# Altium integrated library Maxim Supervisors, Voltage Monitors and Sequencers.IntLib: 631 symbols (part 13 of 13)
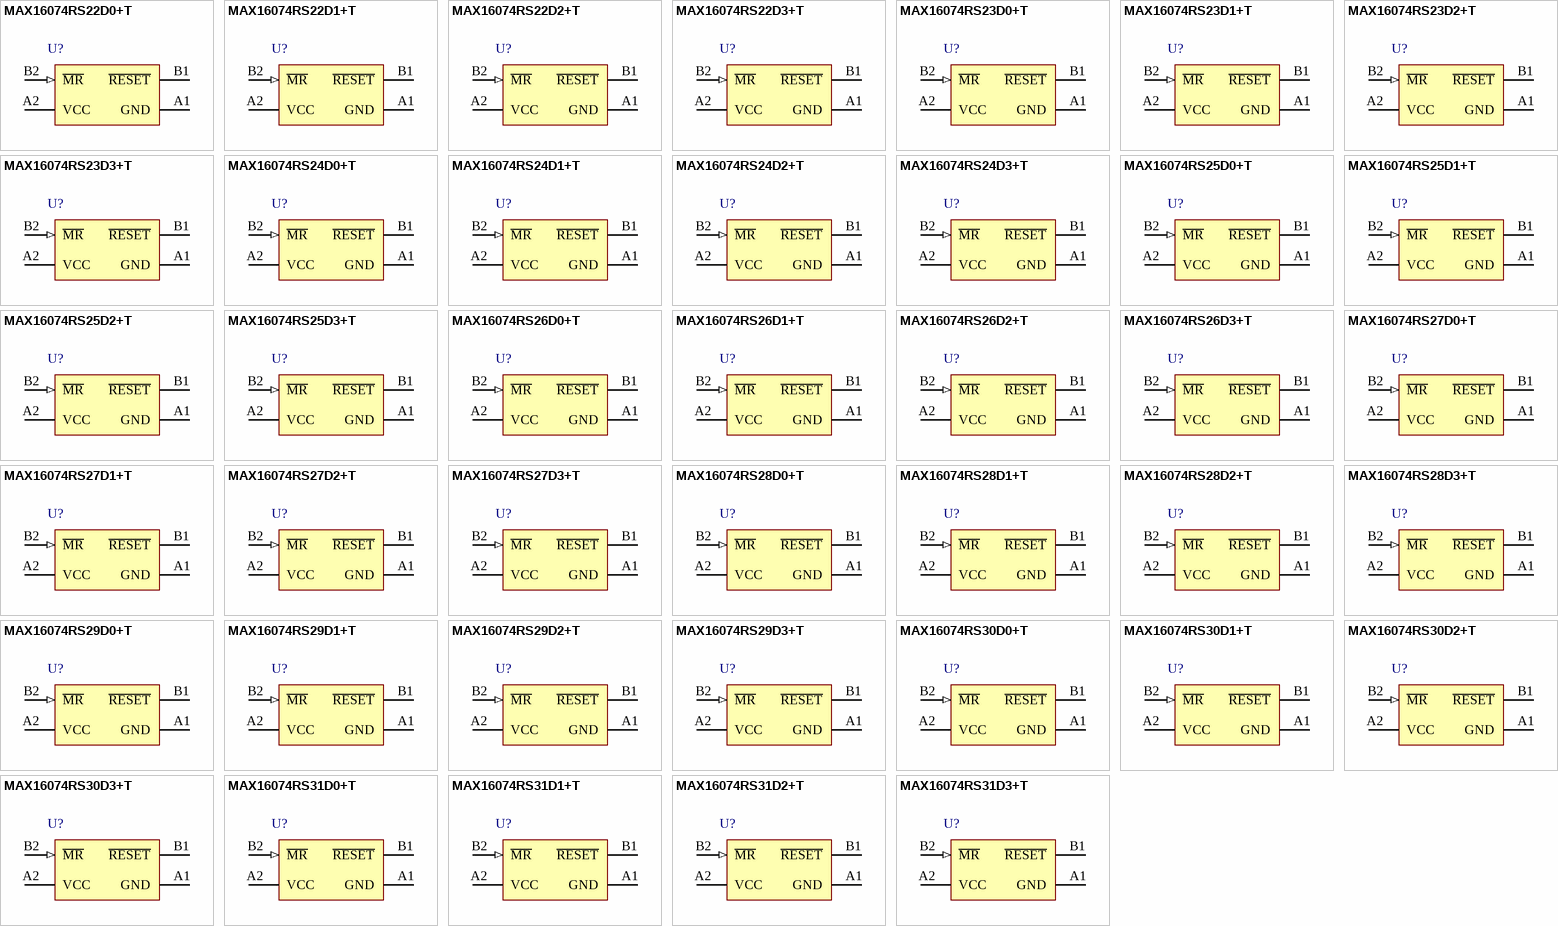
[diagram p29: symbols MAX16074RS22D0+T to MAX16074RS31D3+T]

## MAX16074RS27D3+T
designator U?
uP Supervisory Circuit, open-drain active-low reset, 4-Pin UCSP, -40°C to +85°C, Pb-Free, Tape and Reel; DatasheetVersion: Rev 0, Jan-2010; PackageVersion: revA, 2008; PackageReference: R41C1+1; PackageDescription: 4-Bump Ultra Chip-Scale Package 2x2 Array, 1x1 mm Body, 0.5 mm Pitch, UCSP (R), Pb-Free; ComponentLink1Description: Manufacturer URL; ComponentLink1URL: http://www.maxim-ic.com; ComponentLink2Description: Datasheet; ComponentLink2URL: http://datasheets.maxim-ic.com/en/ds/MAX16072-MAX16074.pdf; ComponentLink3Description: Package Specification; ComponentLink3URL: http://pdfserv.maxim-ic.com/package_dwgs/21-0242.PDF
footprint R41C1+1 (BGA, 4-Leads, Body 1.1x1.1mm, Pitch 0.5mm)
pins: A1 GND (power), A2 VCC (power), B1 ~{RESET} (oc), B2 ~{MR} (in)

## MAX16074RS28D0+T
designator U?
uP Supervisory Circuit, open-drain active-low reset, 4-Pin UCSP, -40°C to +85°C, Pb-Free, Tape and Reel; DatasheetVersion: Rev 0, Jan-2010; PackageVersion: revA, 2008; PackageReference: R41C1+1; PackageDescription: 4-Bump Ultra Chip-Scale Package 2x2 Array, 1x1 mm Body, 0.5 mm Pitch, UCSP (R), Pb-Free; ComponentLink1Description: Manufacturer URL; ComponentLink1URL: http://www.maxim-ic.com; ComponentLink2Description: Datasheet; ComponentLink2URL: http://datasheets.maxim-ic.com/en/ds/MAX16072-MAX16074.pdf; ComponentLink3Description: Package Specification; ComponentLink3URL: http://pdfserv.maxim-ic.com/package_dwgs/21-0242.PDF
footprint R41C1+1 (BGA, 4-Leads, Body 1.1x1.1mm, Pitch 0.5mm)
pins: A1 GND (power), A2 VCC (power), B1 ~{RESET} (oc), B2 ~{MR} (in)

## MAX16074RS28D1+T
designator U?
uP Supervisory Circuit, open-drain active-low reset, 4-Pin UCSP, -40°C to +85°C, Pb-Free, Tape and Reel; DatasheetVersion: Rev 0, Jan-2010; PackageVersion: revA, 2008; PackageReference: R41C1+1; PackageDescription: 4-Bump Ultra Chip-Scale Package 2x2 Array, 1x1 mm Body, 0.5 mm Pitch, UCSP (R), Pb-Free; ComponentLink1Description: Manufacturer URL; ComponentLink1URL: http://www.maxim-ic.com; ComponentLink2Description: Datasheet; ComponentLink2URL: http://datasheets.maxim-ic.com/en/ds/MAX16072-MAX16074.pdf; ComponentLink3Description: Package Specification; ComponentLink3URL: http://pdfserv.maxim-ic.com/package_dwgs/21-0242.PDF
footprint R41C1+1 (BGA, 4-Leads, Body 1.1x1.1mm, Pitch 0.5mm)
pins: A1 GND (power), A2 VCC (power), B1 ~{RESET} (oc), B2 ~{MR} (in)

## MAX16074RS28D2+T
designator U?
uP Supervisory Circuit, open-drain active-low reset, 4-Pin UCSP, -40°C to +85°C, Pb-Free, Tape and Reel; DatasheetVersion: Rev 0, Jan-2010; PackageVersion: revA, 2008; PackageReference: R41C1+1; PackageDescription: 4-Bump Ultra Chip-Scale Package 2x2 Array, 1x1 mm Body, 0.5 mm Pitch, UCSP (R), Pb-Free; ComponentLink1Description: Manufacturer URL; ComponentLink1URL: http://www.maxim-ic.com; ComponentLink2Description: Datasheet; ComponentLink2URL: http://datasheets.maxim-ic.com/en/ds/MAX16072-MAX16074.pdf; ComponentLink3Description: Package Specification; ComponentLink3URL: http://pdfserv.maxim-ic.com/package_dwgs/21-0242.PDF
footprint R41C1+1 (BGA, 4-Leads, Body 1.1x1.1mm, Pitch 0.5mm)
pins: A1 GND (power), A2 VCC (power), B1 ~{RESET} (oc), B2 ~{MR} (in)

## MAX16074RS28D3+T
designator U?
uP Supervisory Circuit, open-drain active-low reset, 4-Pin UCSP, -40°C to +85°C, Pb-Free, Tape and Reel; DatasheetVersion: Rev 0, Jan-2010; PackageVersion: revA, 2008; PackageReference: R41C1+1; PackageDescription: 4-Bump Ultra Chip-Scale Package 2x2 Array, 1x1 mm Body, 0.5 mm Pitch, UCSP (R), Pb-Free; ComponentLink1Description: Manufacturer URL; ComponentLink1URL: http://www.maxim-ic.com; ComponentLink2Description: Datasheet; ComponentLink2URL: http://datasheets.maxim-ic.com/en/ds/MAX16072-MAX16074.pdf; ComponentLink3Description: Package Specification; ComponentLink3URL: http://pdfserv.maxim-ic.com/package_dwgs/21-0242.PDF
footprint R41C1+1 (BGA, 4-Leads, Body 1.1x1.1mm, Pitch 0.5mm)
pins: A1 GND (power), A2 VCC (power), B1 ~{RESET} (oc), B2 ~{MR} (in)

## MAX16074RS29D0+T
designator U?
uP Supervisory Circuit, open-drain active-low reset, 4-Pin UCSP, -40°C to +85°C, Pb-Free, Tape and Reel; DatasheetVersion: Rev 0, Jan-2010; PackageVersion: revA, 2008; PackageReference: R41C1+1; PackageDescription: 4-Bump Ultra Chip-Scale Package 2x2 Array, 1x1 mm Body, 0.5 mm Pitch, UCSP (R), Pb-Free; ComponentLink1Description: Manufacturer URL; ComponentLink1URL: http://www.maxim-ic.com; ComponentLink2Description: Datasheet; ComponentLink2URL: http://datasheets.maxim-ic.com/en/ds/MAX16072-MAX16074.pdf; ComponentLink3Description: Package Specification; ComponentLink3URL: http://pdfserv.maxim-ic.com/package_dwgs/21-0242.PDF
footprint R41C1+1 (BGA, 4-Leads, Body 1.1x1.1mm, Pitch 0.5mm)
pins: A1 GND (power), A2 VCC (power), B1 ~{RESET} (oc), B2 ~{MR} (in)

## MAX16074RS29D1+T
designator U?
uP Supervisory Circuit, open-drain active-low reset, 4-Pin UCSP, -40°C to +85°C, Pb-Free, Tape and Reel; DatasheetVersion: Rev 0, Jan-2010; PackageVersion: revA, 2008; PackageReference: R41C1+1; PackageDescription: 4-Bump Ultra Chip-Scale Package 2x2 Array, 1x1 mm Body, 0.5 mm Pitch, UCSP (R), Pb-Free; ComponentLink1Description: Manufacturer URL; ComponentLink1URL: http://www.maxim-ic.com; ComponentLink2Description: Datasheet; ComponentLink2URL: http://datasheets.maxim-ic.com/en/ds/MAX16072-MAX16074.pdf; ComponentLink3Description: Package Specification; ComponentLink3URL: http://pdfserv.maxim-ic.com/package_dwgs/21-0242.PDF
footprint R41C1+1 (BGA, 4-Leads, Body 1.1x1.1mm, Pitch 0.5mm)
pins: A1 GND (power), A2 VCC (power), B1 ~{RESET} (oc), B2 ~{MR} (in)

## MAX16074RS29D2+T
designator U?
uP Supervisory Circuit, open-drain active-low reset, 4-Pin UCSP, -40°C to +85°C, Pb-Free, Tape and Reel; DatasheetVersion: Rev 0, Jan-2010; PackageVersion: revA, 2008; PackageReference: R41C1+1; PackageDescription: 4-Bump Ultra Chip-Scale Package 2x2 Array, 1x1 mm Body, 0.5 mm Pitch, UCSP (R), Pb-Free; ComponentLink1Description: Manufacturer URL; ComponentLink1URL: http://www.maxim-ic.com; ComponentLink2Description: Datasheet; ComponentLink2URL: http://datasheets.maxim-ic.com/en/ds/MAX16072-MAX16074.pdf; ComponentLink3Description: Package Specification; ComponentLink3URL: http://pdfserv.maxim-ic.com/package_dwgs/21-0242.PDF
footprint R41C1+1 (BGA, 4-Leads, Body 1.1x1.1mm, Pitch 0.5mm)
pins: A1 GND (power), A2 VCC (power), B1 ~{RESET} (oc), B2 ~{MR} (in)

## MAX16074RS29D3+T
designator U?
uP Supervisory Circuit, open-drain active-low reset, 4-Pin UCSP, -40°C to +85°C, Pb-Free, Tape and Reel; DatasheetVersion: Rev 0, Jan-2010; PackageVersion: revA, 2008; PackageReference: R41C1+1; PackageDescription: 4-Bump Ultra Chip-Scale Package 2x2 Array, 1x1 mm Body, 0.5 mm Pitch, UCSP (R), Pb-Free; ComponentLink1Description: Manufacturer URL; ComponentLink1URL: http://www.maxim-ic.com; ComponentLink2Description: Datasheet; ComponentLink2URL: http://datasheets.maxim-ic.com/en/ds/MAX16072-MAX16074.pdf; ComponentLink3Description: Package Specification; ComponentLink3URL: http://pdfserv.maxim-ic.com/package_dwgs/21-0242.PDF
footprint R41C1+1 (BGA, 4-Leads, Body 1.1x1.1mm, Pitch 0.5mm)
pins: A1 GND (power), A2 VCC (power), B1 ~{RESET} (oc), B2 ~{MR} (in)

## MAX16074RS30D0+T
designator U?
uP Supervisory Circuit, open-drain active-low reset, 4-Pin UCSP, -40°C to +85°C, Pb-Free, Tape and Reel; DatasheetVersion: Rev 0, Jan-2010; PackageVersion: revA, 2008; PackageReference: R41C1+1; PackageDescription: 4-Bump Ultra Chip-Scale Package 2x2 Array, 1x1 mm Body, 0.5 mm Pitch, UCSP (R), Pb-Free; ComponentLink1Description: Manufacturer URL; ComponentLink1URL: http://www.maxim-ic.com; ComponentLink2Description: Datasheet; ComponentLink2URL: http://datasheets.maxim-ic.com/en/ds/MAX16072-MAX16074.pdf; ComponentLink3Description: Package Specification; ComponentLink3URL: http://pdfserv.maxim-ic.com/package_dwgs/21-0242.PDF
footprint R41C1+1 (BGA, 4-Leads, Body 1.1x1.1mm, Pitch 0.5mm)
pins: A1 GND (power), A2 VCC (power), B1 ~{RESET} (oc), B2 ~{MR} (in)

## MAX16074RS30D1+T
designator U?
uP Supervisory Circuit, open-drain active-low reset, 4-Pin UCSP, -40°C to +85°C, Pb-Free, Tape and Reel; DatasheetVersion: Rev 0, Jan-2010; PackageVersion: revA, 2008; PackageReference: R41C1+1; PackageDescription: 4-Bump Ultra Chip-Scale Package 2x2 Array, 1x1 mm Body, 0.5 mm Pitch, UCSP (R), Pb-Free; ComponentLink1Description: Manufacturer URL; ComponentLink1URL: http://www.maxim-ic.com; ComponentLink2Description: Datasheet; ComponentLink2URL: http://datasheets.maxim-ic.com/en/ds/MAX16072-MAX16074.pdf; ComponentLink3Description: Package Specification; ComponentLink3URL: http://pdfserv.maxim-ic.com/package_dwgs/21-0242.PDF
footprint R41C1+1 (BGA, 4-Leads, Body 1.1x1.1mm, Pitch 0.5mm)
pins: A1 GND (power), A2 VCC (power), B1 ~{RESET} (oc), B2 ~{MR} (in)

## MAX16074RS30D2+T
designator U?
uP Supervisory Circuit, open-drain active-low reset, 4-Pin UCSP, -40°C to +85°C, Pb-Free, Tape and Reel; DatasheetVersion: Rev 0, Jan-2010; PackageVersion: revA, 2008; PackageReference: R41C1+1; PackageDescription: 4-Bump Ultra Chip-Scale Package 2x2 Array, 1x1 mm Body, 0.5 mm Pitch, UCSP (R), Pb-Free; ComponentLink1Description: Manufacturer URL; ComponentLink1URL: http://www.maxim-ic.com; ComponentLink2Description: Datasheet; ComponentLink2URL: http://datasheets.maxim-ic.com/en/ds/MAX16072-MAX16074.pdf; ComponentLink3Description: Package Specification; ComponentLink3URL: http://pdfserv.maxim-ic.com/package_dwgs/21-0242.PDF
footprint R41C1+1 (BGA, 4-Leads, Body 1.1x1.1mm, Pitch 0.5mm)
pins: A1 GND (power), A2 VCC (power), B1 ~{RESET} (oc), B2 ~{MR} (in)

## MAX16074RS30D3+T
designator U?
uP Supervisory Circuit, open-drain active-low reset, 4-Pin UCSP, -40°C to +85°C, Pb-Free, Tape and Reel; DatasheetVersion: Rev 0, Jan-2010; PackageVersion: revA, 2008; PackageReference: R41C1+1; PackageDescription: 4-Bump Ultra Chip-Scale Package 2x2 Array, 1x1 mm Body, 0.5 mm Pitch, UCSP (R), Pb-Free; ComponentLink1Description: Manufacturer URL; ComponentLink1URL: http://www.maxim-ic.com; ComponentLink2Description: Datasheet; ComponentLink2URL: http://datasheets.maxim-ic.com/en/ds/MAX16072-MAX16074.pdf; ComponentLink3Description: Package Specification; ComponentLink3URL: http://pdfserv.maxim-ic.com/package_dwgs/21-0242.PDF
footprint R41C1+1 (BGA, 4-Leads, Body 1.1x1.1mm, Pitch 0.5mm)
pins: A1 GND (power), A2 VCC (power), B1 ~{RESET} (oc), B2 ~{MR} (in)

## MAX16074RS31D0+T
designator U?
uP Supervisory Circuit, open-drain active-low reset, 4-Pin UCSP, -40°C to +85°C, Pb-Free, Tape and Reel; DatasheetVersion: Rev 0, Jan-2010; PackageVersion: revA, 2008; PackageReference: R41C1+1; PackageDescription: 4-Bump Ultra Chip-Scale Package 2x2 Array, 1x1 mm Body, 0.5 mm Pitch, UCSP (R), Pb-Free; ComponentLink1Description: Manufacturer URL; ComponentLink1URL: http://www.maxim-ic.com; ComponentLink2Description: Datasheet; ComponentLink2URL: http://datasheets.maxim-ic.com/en/ds/MAX16072-MAX16074.pdf; ComponentLink3Description: Package Specification; ComponentLink3URL: http://pdfserv.maxim-ic.com/package_dwgs/21-0242.PDF
footprint R41C1+1 (BGA, 4-Leads, Body 1.1x1.1mm, Pitch 0.5mm)
pins: A1 GND (power), A2 VCC (power), B1 ~{RESET} (oc), B2 ~{MR} (in)

## MAX16074RS31D1+T
designator U?
uP Supervisory Circuit, open-drain active-low reset, 4-Pin UCSP, -40°C to +85°C, Pb-Free, Tape and Reel; DatasheetVersion: Rev 0, Jan-2010; PackageVersion: revA, 2008; PackageReference: R41C1+1; PackageDescription: 4-Bump Ultra Chip-Scale Package 2x2 Array, 1x1 mm Body, 0.5 mm Pitch, UCSP (R), Pb-Free; ComponentLink1Description: Manufacturer URL; ComponentLink1URL: http://www.maxim-ic.com; ComponentLink2Description: Datasheet; ComponentLink2URL: http://datasheets.maxim-ic.com/en/ds/MAX16072-MAX16074.pdf; ComponentLink3Description: Package Specification; ComponentLink3URL: http://pdfserv.maxim-ic.com/package_dwgs/21-0242.PDF
footprint R41C1+1 (BGA, 4-Leads, Body 1.1x1.1mm, Pitch 0.5mm)
pins: A1 GND (power), A2 VCC (power), B1 ~{RESET} (oc), B2 ~{MR} (in)

## MAX16074RS31D2+T
designator U?
uP Supervisory Circuit, open-drain active-low reset, 4-Pin UCSP, -40°C to +85°C, Pb-Free, Tape and Reel; DatasheetVersion: Rev 0, Jan-2010; PackageVersion: revA, 2008; PackageReference: R41C1+1; PackageDescription: 4-Bump Ultra Chip-Scale Package 2x2 Array, 1x1 mm Body, 0.5 mm Pitch, UCSP (R), Pb-Free; ComponentLink1Description: Manufacturer URL; ComponentLink1URL: http://www.maxim-ic.com; ComponentLink2Description: Datasheet; ComponentLink2URL: http://datasheets.maxim-ic.com/en/ds/MAX16072-MAX16074.pdf; ComponentLink3Description: Package Specification; ComponentLink3URL: http://pdfserv.maxim-ic.com/package_dwgs/21-0242.PDF
footprint R41C1+1 (BGA, 4-Leads, Body 1.1x1.1mm, Pitch 0.5mm)
pins: A1 GND (power), A2 VCC (power), B1 ~{RESET} (oc), B2 ~{MR} (in)

## MAX16074RS31D3+T
designator U?
uP Supervisory Circuit, open-drain active-low reset, 4-Pin UCSP, -40°C to +85°C, Pb-Free, Tape and Reel; DatasheetVersion: Rev 0, Jan-2010; PackageVersion: revA, 2008; PackageReference: R41C1+1; PackageDescription: 4-Bump Ultra Chip-Scale Package 2x2 Array, 1x1 mm Body, 0.5 mm Pitch, UCSP (R), Pb-Free; ComponentLink1Description: Manufacturer URL; ComponentLink1URL: http://www.maxim-ic.com; ComponentLink2Description: Datasheet; ComponentLink2URL: http://datasheets.maxim-ic.com/en/ds/MAX16072-MAX16074.pdf; ComponentLink3Description: Package Specification; ComponentLink3URL: http://pdfserv.maxim-ic.com/package_dwgs/21-0242.PDF
footprint R41C1+1 (BGA, 4-Leads, Body 1.1x1.1mm, Pitch 0.5mm)
pins: A1 GND (power), A2 VCC (power), B1 ~{RESET} (oc), B2 ~{MR} (in)

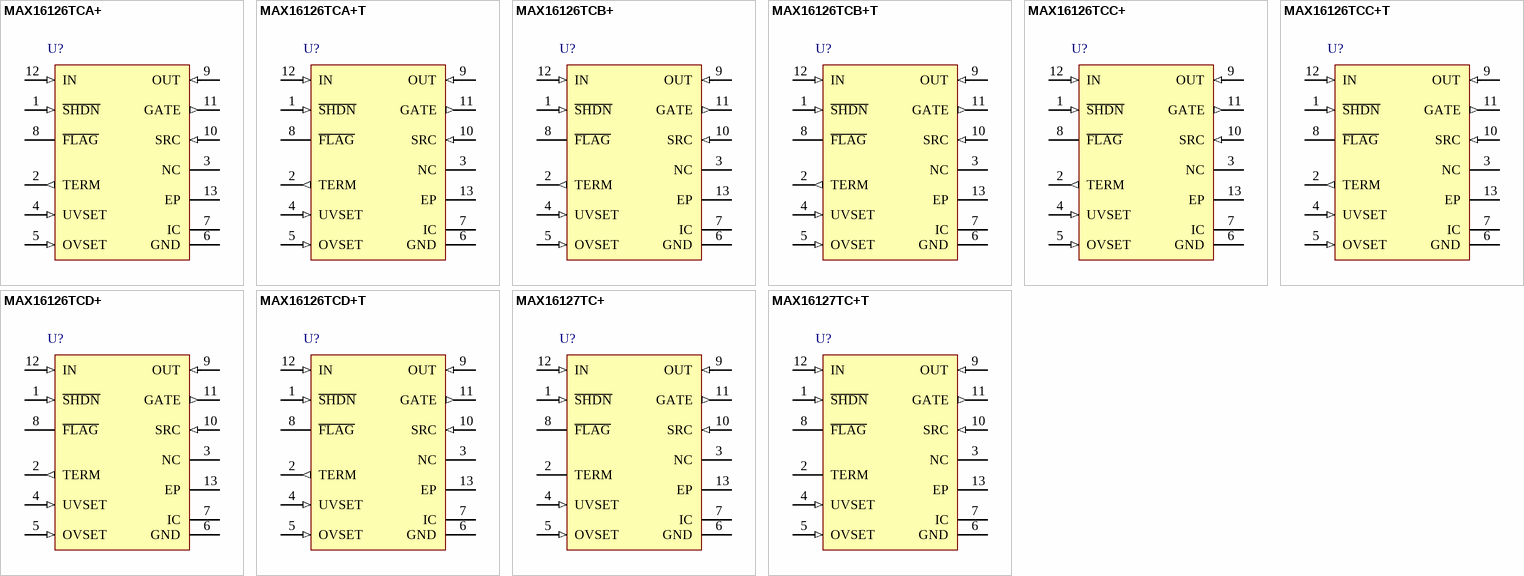
[diagram p17: symbols MAX16126TCA+ to MAX16127TC+T]

## MAX16126TCA+
designator U?
Load-Dump/Reverse-Voltage Protection Circuit, switch-mode fault management, 12-Pin TQFN-EP, -40°C to +125°C, Pb-Free; DatasheetVersion: Rev 0, Nov-2011; PackageVersion: revJ, 2010; PackageReference: T1233+4; PackageDescription: 12-Pin Thin Quad Flatpack, No Leads, 3 x 3 x 0.75 mm Body, 0.5 mm Pitch, TQFN, Pb-Free; Code_JEDEC: MO-220WEED-1; ComponentLink1Description: Manufacturer URL; ComponentLink1URL: http://www.maxim-ic.com; ComponentLink2Description: Datasheet; ComponentLink2URL: http://datasheets.maxim-ic.com/en/ds/MAX16126-MAX16127.pdf; ComponentLink3Description: Package Specification; ComponentLink3URL: http://pdfserv.maxim-ic.com/package_dwgs/21-0136.PDF
footprint T1233+4_N (QFN, 12-Leads, Body 3x3mm, Pitch 0.5mm, Thermal Pad 1.1x1.1mm, IPC Medium Density)
footprint T1233+4_L (QFN, 12-Leads, Body 3x3mm, Pitch 0.5mm, Thermal Pad 1.1x1.1mm, IPC High Density)
footprint T1233+4_M (QFN, 12-Leads, Body 3x3mm, Pitch 0.5mm, Thermal Pad 1.1x1.1mm, IPC Low Density)
pins: 1 ~{SHDN} (in), 2 TERM (out), 3 NC, 4 UVSET (in), 5 OVSET (in), 6 GND (power), 7 IC (power), 8 ~{FLAG} (oc), 9 OUT (in), 10 SRC (in), 11 GATE (out), 12 IN (in), 13 EP

## MAX16126TCA+T
designator U?
Load-Dump/Reverse-Voltage Protection Circuit, switch-mode fault management, 12-Pin TQFN-EP, -40°C to +125°C, Pb-Free, Tape and Reel; DatasheetVersion: Rev 0, Nov-2011; PackageVersion: revJ, 2010; PackageReference: T1233+4; PackageDescription: 12-Pin Thin Quad Flatpack, No Leads, 3 x 3 x 0.75 mm Body, 0.5 mm Pitch, TQFN, Pb-Free; Code_JEDEC: MO-220WEED-1; ComponentLink1Description: Manufacturer URL; ComponentLink1URL: http://www.maxim-ic.com; ComponentLink2Description: Datasheet; ComponentLink2URL: http://datasheets.maxim-ic.com/en/ds/MAX16126-MAX16127.pdf; ComponentLink3Description: Package Specification; ComponentLink3URL: http://pdfserv.maxim-ic.com/package_dwgs/21-0136.PDF
footprint T1233+4_N (QFN, 12-Leads, Body 3x3mm, Pitch 0.5mm, Thermal Pad 1.1x1.1mm, IPC Medium Density)
footprint T1233+4_L (QFN, 12-Leads, Body 3x3mm, Pitch 0.5mm, Thermal Pad 1.1x1.1mm, IPC High Density)
footprint T1233+4_M (QFN, 12-Leads, Body 3x3mm, Pitch 0.5mm, Thermal Pad 1.1x1.1mm, IPC Low Density)
pins: 1 ~{SHDN} (in), 2 TERM (out), 3 NC, 4 UVSET (in), 5 OVSET (in), 6 GND (power), 7 IC (power), 8 ~{FLAG} (oc), 9 OUT (in), 10 SRC (in), 11 GATE (out), 12 IN (in), 13 EP

## MAX16126TCB+
designator U?
Load-Dump/Reverse-Voltage Protection Circuit, switch-mode fault management, 12-Pin TQFN-EP, -40°C to +125°C, Pb-Free; DatasheetVersion: Rev 0, Nov-2011; PackageVersion: revJ, 2010; PackageReference: T1233+4; PackageDescription: 12-Pin Thin Quad Flatpack, No Leads, 3 x 3 x 0.75 mm Body, 0.5 mm Pitch, TQFN, Pb-Free; Code_JEDEC: MO-220WEED-1; ComponentLink1Description: Manufacturer URL; ComponentLink1URL: http://www.maxim-ic.com; ComponentLink2Description: Datasheet; ComponentLink2URL: http://datasheets.maxim-ic.com/en/ds/MAX16126-MAX16127.pdf; ComponentLink3Description: Package Specification; ComponentLink3URL: http://pdfserv.maxim-ic.com/package_dwgs/21-0136.PDF
footprint T1233+4_N (QFN, 12-Leads, Body 3x3mm, Pitch 0.5mm, Thermal Pad 1.1x1.1mm, IPC Medium Density)
footprint T1233+4_L (QFN, 12-Leads, Body 3x3mm, Pitch 0.5mm, Thermal Pad 1.1x1.1mm, IPC High Density)
footprint T1233+4_M (QFN, 12-Leads, Body 3x3mm, Pitch 0.5mm, Thermal Pad 1.1x1.1mm, IPC Low Density)
pins: 1 ~{SHDN} (in), 2 TERM (out), 3 NC, 4 UVSET (in), 5 OVSET (in), 6 GND (power), 7 IC (power), 8 ~{FLAG} (oc), 9 OUT (in), 10 SRC (in), 11 GATE (out), 12 IN (in), 13 EP

## MAX16126TCB+T
designator U?
Load-Dump/Reverse-Voltage Protection Circuit, switch-mode fault management, 12-Pin TQFN-EP, -40°C to +125°C, Pb-Free, Tape and Reel; DatasheetVersion: Rev 0, Nov-2011; PackageVersion: revJ, 2010; PackageReference: T1233+4; PackageDescription: 12-Pin Thin Quad Flatpack, No Leads, 3 x 3 x 0.75 mm Body, 0.5 mm Pitch, TQFN, Pb-Free; Code_JEDEC: MO-220WEED-1; ComponentLink1Description: Manufacturer URL; ComponentLink1URL: http://www.maxim-ic.com; ComponentLink2Description: Datasheet; ComponentLink2URL: http://datasheets.maxim-ic.com/en/ds/MAX16126-MAX16127.pdf; ComponentLink3Description: Package Specification; ComponentLink3URL: http://pdfserv.maxim-ic.com/package_dwgs/21-0136.PDF
footprint T1233+4_N (QFN, 12-Leads, Body 3x3mm, Pitch 0.5mm, Thermal Pad 1.1x1.1mm, IPC Medium Density)
footprint T1233+4_L (QFN, 12-Leads, Body 3x3mm, Pitch 0.5mm, Thermal Pad 1.1x1.1mm, IPC High Density)
footprint T1233+4_M (QFN, 12-Leads, Body 3x3mm, Pitch 0.5mm, Thermal Pad 1.1x1.1mm, IPC Low Density)
pins: 1 ~{SHDN} (in), 2 TERM (out), 3 NC, 4 UVSET (in), 5 OVSET (in), 6 GND (power), 7 IC (power), 8 ~{FLAG} (oc), 9 OUT (in), 10 SRC (in), 11 GATE (out), 12 IN (in), 13 EP

## MAX16126TCC+
designator U?
Load-Dump/Reverse-Voltage Protection Circuit, switch-mode fault management, 12-Pin TQFN-EP, -40°C to +125°C, Pb-Free; DatasheetVersion: Rev 0, Nov-2011; PackageVersion: revJ, 2010; PackageReference: T1233+4; PackageDescription: 12-Pin Thin Quad Flatpack, No Leads, 3 x 3 x 0.75 mm Body, 0.5 mm Pitch, TQFN, Pb-Free; Code_JEDEC: MO-220WEED-1; ComponentLink1Description: Manufacturer URL; ComponentLink1URL: http://www.maxim-ic.com; ComponentLink2Description: Datasheet; ComponentLink2URL: http://datasheets.maxim-ic.com/en/ds/MAX16126-MAX16127.pdf; ComponentLink3Description: Package Specification; ComponentLink3URL: http://pdfserv.maxim-ic.com/package_dwgs/21-0136.PDF
footprint T1233+4_N (QFN, 12-Leads, Body 3x3mm, Pitch 0.5mm, Thermal Pad 1.1x1.1mm, IPC Medium Density)
footprint T1233+4_L (QFN, 12-Leads, Body 3x3mm, Pitch 0.5mm, Thermal Pad 1.1x1.1mm, IPC High Density)
footprint T1233+4_M (QFN, 12-Leads, Body 3x3mm, Pitch 0.5mm, Thermal Pad 1.1x1.1mm, IPC Low Density)
pins: 1 ~{SHDN} (in), 2 TERM (out), 3 NC, 4 UVSET (in), 5 OVSET (in), 6 GND (power), 7 IC (power), 8 ~{FLAG} (oc), 9 OUT (in), 10 SRC (in), 11 GATE (out), 12 IN (in), 13 EP

## MAX16126TCC+T
designator U?
Load-Dump/Reverse-Voltage Protection Circuit, switch-mode fault management, 12-Pin TQFN-EP, -40°C to +125°C, Pb-Free, Tape and Reel; DatasheetVersion: Rev 0, Nov-2011; PackageVersion: revJ, 2010; PackageReference: T1233+4; PackageDescription: 12-Pin Thin Quad Flatpack, No Leads, 3 x 3 x 0.75 mm Body, 0.5 mm Pitch, TQFN, Pb-Free; Code_JEDEC: MO-220WEED-1; ComponentLink1Description: Manufacturer URL; ComponentLink1URL: http://www.maxim-ic.com; ComponentLink2Description: Datasheet; ComponentLink2URL: http://datasheets.maxim-ic.com/en/ds/MAX16126-MAX16127.pdf; ComponentLink3Description: Package Specification; ComponentLink3URL: http://pdfserv.maxim-ic.com/package_dwgs/21-0136.PDF
footprint T1233+4_N (QFN, 12-Leads, Body 3x3mm, Pitch 0.5mm, Thermal Pad 1.1x1.1mm, IPC Medium Density)
footprint T1233+4_L (QFN, 12-Leads, Body 3x3mm, Pitch 0.5mm, Thermal Pad 1.1x1.1mm, IPC High Density)
footprint T1233+4_M (QFN, 12-Leads, Body 3x3mm, Pitch 0.5mm, Thermal Pad 1.1x1.1mm, IPC Low Density)
pins: 1 ~{SHDN} (in), 2 TERM (out), 3 NC, 4 UVSET (in), 5 OVSET (in), 6 GND (power), 7 IC (power), 8 ~{FLAG} (oc), 9 OUT (in), 10 SRC (in), 11 GATE (out), 12 IN (in), 13 EP

## MAX16126TCD+
designator U?
Load-Dump/Reverse-Voltage Protection Circuit, switch-mode fault management, 12-Pin TQFN-EP, -40°C to +125°C, Pb-Free; DatasheetVersion: Rev 0, Nov-2011; PackageVersion: revJ, 2010; PackageReference: T1233+4; PackageDescription: 12-Pin Thin Quad Flatpack, No Leads, 3 x 3 x 0.75 mm Body, 0.5 mm Pitch, TQFN, Pb-Free; Code_JEDEC: MO-220WEED-1; ComponentLink1Description: Manufacturer URL; ComponentLink1URL: http://www.maxim-ic.com; ComponentLink2Description: Datasheet; ComponentLink2URL: http://datasheets.maxim-ic.com/en/ds/MAX16126-MAX16127.pdf; ComponentLink3Description: Package Specification; ComponentLink3URL: http://pdfserv.maxim-ic.com/package_dwgs/21-0136.PDF
footprint T1233+4_N (QFN, 12-Leads, Body 3x3mm, Pitch 0.5mm, Thermal Pad 1.1x1.1mm, IPC Medium Density)
footprint T1233+4_L (QFN, 12-Leads, Body 3x3mm, Pitch 0.5mm, Thermal Pad 1.1x1.1mm, IPC High Density)
footprint T1233+4_M (QFN, 12-Leads, Body 3x3mm, Pitch 0.5mm, Thermal Pad 1.1x1.1mm, IPC Low Density)
pins: 1 ~{SHDN} (in), 2 TERM (out), 3 NC, 4 UVSET (in), 5 OVSET (in), 6 GND (power), 7 IC (power), 8 ~{FLAG} (oc), 9 OUT (in), 10 SRC (in), 11 GATE (out), 12 IN (in), 13 EP

## MAX16126TCD+T
designator U?
Load-Dump/Reverse-Voltage Protection Circuit, switch-mode fault management, 12-Pin TQFN-EP, -40°C to +125°C, Pb-Free, Tape and Reel; DatasheetVersion: Rev 0, Nov-2011; PackageVersion: revJ, 2010; PackageReference: T1233+4; PackageDescription: 12-Pin Thin Quad Flatpack, No Leads, 3 x 3 x 0.75 mm Body, 0.5 mm Pitch, TQFN, Pb-Free; Code_JEDEC: MO-220WEED-1; ComponentLink1Description: Manufacturer URL; ComponentLink1URL: http://www.maxim-ic.com; ComponentLink2Description: Datasheet; ComponentLink2URL: http://datasheets.maxim-ic.com/en/ds/MAX16126-MAX16127.pdf; ComponentLink3Description: Package Specification; ComponentLink3URL: http://pdfserv.maxim-ic.com/package_dwgs/21-0136.PDF
footprint T1233+4_N (QFN, 12-Leads, Body 3x3mm, Pitch 0.5mm, Thermal Pad 1.1x1.1mm, IPC Medium Density)
footprint T1233+4_L (QFN, 12-Leads, Body 3x3mm, Pitch 0.5mm, Thermal Pad 1.1x1.1mm, IPC High Density)
footprint T1233+4_M (QFN, 12-Leads, Body 3x3mm, Pitch 0.5mm, Thermal Pad 1.1x1.1mm, IPC Low Density)
pins: 1 ~{SHDN} (in), 2 TERM (out), 3 NC, 4 UVSET (in), 5 OVSET (in), 6 GND (power), 7 IC (power), 8 ~{FLAG} (oc), 9 OUT (in), 10 SRC (in), 11 GATE (out), 12 IN (in), 13 EP

## MAX16127TC+
designator U?
Load-Dump/Reverse-Voltage Protection Circuit, limiter-mode fault management, 12-Pin TQFN-EP, -40°C to +125°C, Pb-Free; DatasheetVersion: Rev 0, Nov-2011; PackageVersion: revJ, 2010; PackageReference: T1233+4; PackageDescription: 12-Pin Thin Quad Flatpack, No Leads, 3 x 3 x 0.75 mm Body, 0.5 mm Pitch, TQFN, Pb-Free; Code_JEDEC: MO-220WEED-1; ComponentLink1Description: Manufacturer URL; ComponentLink1URL: http://www.maxim-ic.com; ComponentLink2Description: Datasheet; ComponentLink2URL: http://datasheets.maxim-ic.com/en/ds/MAX16126-MAX16127.pdf; ComponentLink3Description: Package Specification; ComponentLink3URL: http://pdfserv.maxim-ic.com/package_dwgs/21-0136.PDF
footprint T1233+4_N (QFN, 12-Leads, Body 3x3mm, Pitch 0.5mm, Thermal Pad 1.1x1.1mm, IPC Medium Density)
footprint T1233+4_L (QFN, 12-Leads, Body 3x3mm, Pitch 0.5mm, Thermal Pad 1.1x1.1mm, IPC High Density)
footprint T1233+4_M (QFN, 12-Leads, Body 3x3mm, Pitch 0.5mm, Thermal Pad 1.1x1.1mm, IPC Low Density)
pins: 1 ~{SHDN} (in), 2 TERM (hiz), 3 NC, 4 UVSET (in), 5 OVSET (in), 6 GND (power), 7 IC (power), 8 ~{FLAG} (hiz), 9 OUT (in), 10 SRC (in), 11 GATE (out), 12 IN (in), 13 EP

## MAX16127TC+T
designator U?
Load-Dump/Reverse-Voltage Protection Circuit, limiter-mode fault management, 12-Pin TQFN-EP, -40°C to +125°C, Pb-Free, Tape and Reel; DatasheetVersion: Rev 0, Nov-2011; PackageVersion: revJ, 2010; PackageReference: T1233+4; PackageDescription: 12-Pin Thin Quad Flatpack, No Leads, 3 x 3 x 0.75 mm Body, 0.5 mm Pitch, TQFN, Pb-Free; Code_JEDEC: MO-220WEED-1; ComponentLink1Description: Manufacturer URL; ComponentLink1URL: http://www.maxim-ic.com; ComponentLink2Description: Datasheet; ComponentLink2URL: http://datasheets.maxim-ic.com/en/ds/MAX16126-MAX16127.pdf; ComponentLink3Description: Package Specification; ComponentLink3URL: http://pdfserv.maxim-ic.com/package_dwgs/21-0136.PDF
footprint T1233+4_N (QFN, 12-Leads, Body 3x3mm, Pitch 0.5mm, Thermal Pad 1.1x1.1mm, IPC Medium Density)
footprint T1233+4_L (QFN, 12-Leads, Body 3x3mm, Pitch 0.5mm, Thermal Pad 1.1x1.1mm, IPC High Density)
footprint T1233+4_M (QFN, 12-Leads, Body 3x3mm, Pitch 0.5mm, Thermal Pad 1.1x1.1mm, IPC Low Density)
pins: 1 ~{SHDN} (in), 2 TERM (hiz), 3 NC, 4 UVSET (in), 5 OVSET (in), 6 GND (power), 7 IC (power), 8 ~{FLAG} (hiz), 9 OUT (in), 10 SRC (in), 11 GATE (out), 12 IN (in), 13 EP